# Altium footprint library connector5mm.PcbLib: 6 footprints
Each footprint in its own frame and in the unit in brackets; x right, y up, seen from the top. Pads: shape width x height; smd on the part's side, far side on the other; paste and mask are expansions set on the pad; w line width, h text height; cw(c..) or ccw(c..) is an arc to the next point about the centre after c.
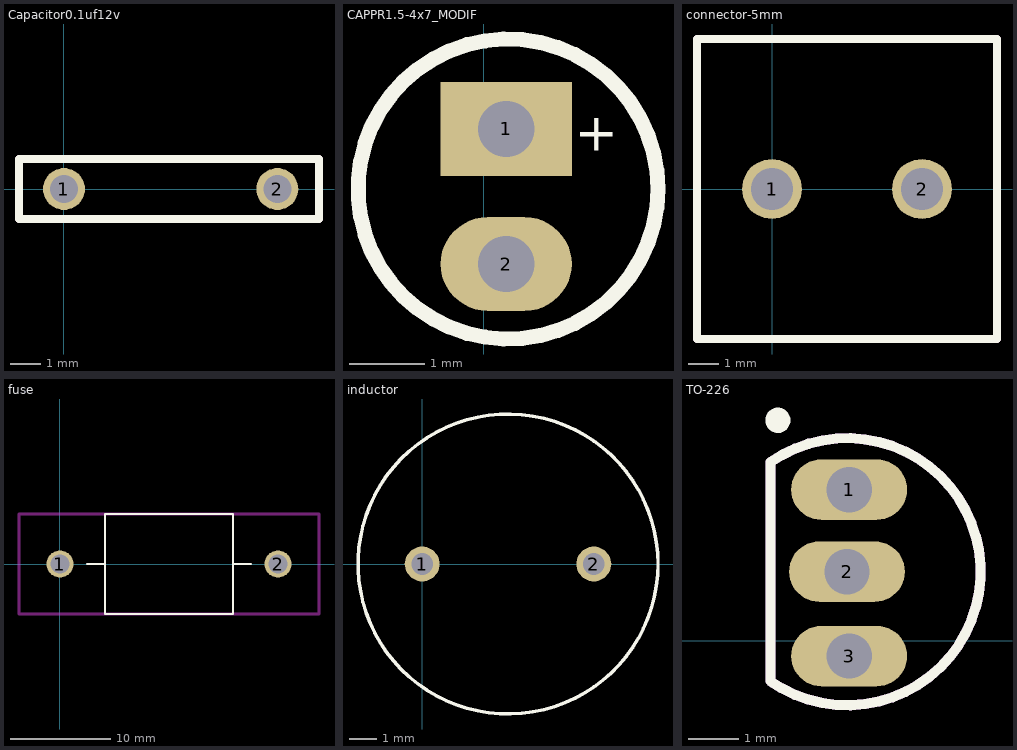
[diagram p0: the footprints below, top view; thin cyan lines are the x and y axes]

## Capacitor0.1uf12v [mil]
pads (2):
  round 55 hole 37: 1(0,0) 2(280,0)
Top Overlay keep-out:
  lines w10: -59.06,-39.37 334.65,-39.37 334.65,39.37 -59.06,39.37 -59.06,-39.37

## CAPPR1.5-4x7_MODIF [mm]
pads (2):
  rect 1.75x1.25 hole 0.75: 1(0.3,3.2)
  oval 1.75x1.25 hole 0.75: 2(0.3,1.4)
Top Overlay:
  circle w0.2: c0.324,2.4 r2
  text "+" at 1.213,2.908 h0.51

## connector-5mm [mm]
height 14.5
pads (2):
  round 2 hole 1.4: 1(0,0) 2(5,0)
Top Layer keep-out:
  lines w0.254: 7.5,5 7.5,5
Top Overlay keep-out:
  lines w0.254: -2.5,-5 -2.5,5 7.5,5 7.5,-5 -2.5,-5

## fuse [mm]
height 12.4
pads (2):
  round 2.7 hole 1.9: 1(0,0) 2(21.8,0)
Top Layer keep-out:
  lines w0.254: -4.1,-5 -4.1,5 25.9,5 25.9,-5 -4.1,-5
Top Overlay:
  lines w0.2: 2.7,0 4.525,0 ; 17.275,0 19.1,0 ; 4.525,0 4.525,-5 17.275,-5 17.275,5 4.525,5 4.525,0

## inductor [mil]
height 450
pads (2):
  round 50 hole 31: 1(0,0) 2(246,0)
Top Overlay:
  circle w5: c123,0 r215

## TO-226 [mm]
pads (3):
  oval 2.3x1.2 hole 0.9: 1(-3.7,3) 2(-3.741,1.373) 3(-3.7,-0.3)
Top Overlay:
  circle w0.25: c-5.112,4.376 r0.125
  lines w0.2: -5.261,-0.798 ccw(c-3.741,1.373) -5.261,3.544 -5.261,-0.798
Mechanical 13:
  lines w0.2: -5.261,-0.798 ccw(c-3.741,1.373) -5.261,3.544 -5.261,-0.798
Mechanical 15:
  lines w0.1: -4.241,1.373 -3.241,1.373 ; -3.741,0.873 -3.741,1.873
3D body: height 5.33, standoff 0, extent -5.264,-1.286 -1.082,4.032